# Altium schematic symbol library GPS_NEO-6M.SCHLIB: 13 symbols
Pins are listed as number, name and electrical type; pins without a type are passive.

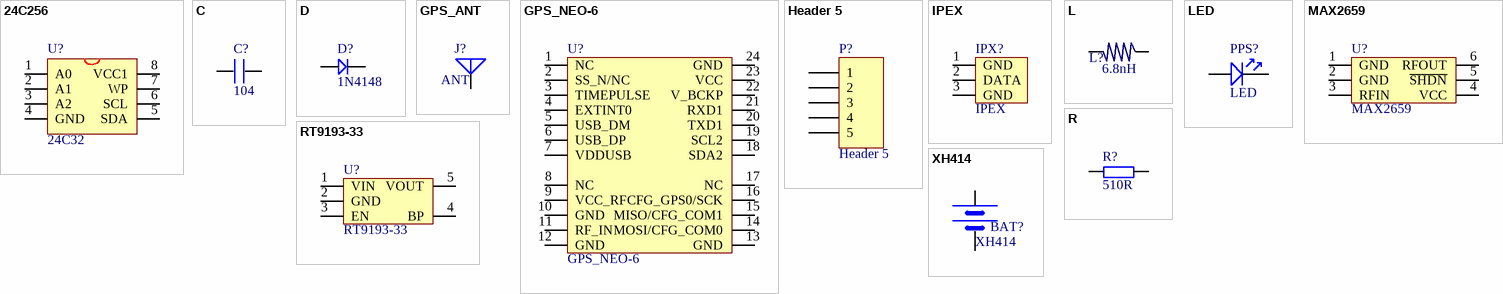
[diagram p0: symbols 24C256 to XH414]

## 24C256
designator U?, comment 24C32
EEPROM
footprint SOP-8 (SSOP8)
footprint TSSOP8 (Shrink Small Outline, MSOP; 8 Leads; Body Width 3 mm; Pitch 0.65 mm)
pins: 1 A0, 2 A1, 3 A2, 4 GND, 5 SDA, 6 SCL, 7 WP, 8 VCC1

## C
designator C?, comment 104
footprint 0603P
footprint 0805
footprint CC5.08 (CAP0.1)
footprint CC4.572 (222/332)
footprint 1206
footprint 1210
footprint CC6.096
footprint CC7.62
footprint CVAR (4MM*6.6MM)
pins: 1, 2

## D
designator D?, comment 1N4148
footprint SOD-123
footprint DIODE_SOP
footprint DIODE-L (6A10)
footprint DIODE-M (1N5822)
footprint DIODE_S (1N4007)
footprint DIODE_3*5.3 (ME:SS14/SS24;L:5.3mm;W:3mm;)
footprint DIODE_4*5.6 (ME:RS2J.L:5.6mm;W:4mm)
footprint DIODE_6.2*8.13 (ME:RS2J.L:8.13mm;W:6.2mm)
pins: 1, 2

## GPS_ANT
designator J?, comment ANT
GPS陶瓷天线25mm*25mm
footprint GPS_ANT (25mm*25m)
pins: 1 ANT

## GPS_NEO-6
designator U?
footprint GPS_NEO-6 (NEO-6G/NEO-6M/NEO-6Q)
pins: 1 NC, 2 SS_N/NC, 3 TIMEPULSE, 4 EXTINT0, 5 USB_DM, 6 USB_DP, 7 VDDUSB, 8 NC, 9 VCC_RF, 10 GND, 11 RF_IN, 12 GND, 13 GND, 14 MOSI/CFG_COM0, 15 MISO/CFG_COM1, 16 CFG_GPS0/SCK, 17 NC, 18 SDA2, 19 SCL2, 20 TXD1, 21 RXD1, 22 V_BCKP, 23 VCC, 24 GND

## Header 5
designator P?
Header, 5-Pin; LatestRevisionDate: 17-Jul-2002; LatestRevisionNote: Re-released for DXP Platform.; Publisher: Altium Limited
footprint HDR1X5 (Connector; Header; 5 Position)
signal-integrity model Connector
pins: 1, 2, 3, 4, 5

## IPEX
designator IPX?
IPEX座
footprint IPEX (IPEX座 2.6mm*2.6mm*1.25mm)
pins: 1 GND, 2 DATA, 3 GND

## L
designator L?, comment 6.8nH
footprint L3A (L)
footprint L4.7
footprint L_USER (SELF_DEF)
footprint L10 (10mH)
footprint SMD7850
footprint 0805
footprint 1206
footprint L_SOPL (L_LARGE)
footprint L_CD43 (4mm*4mm)
footprint 0603P
pins: 1, 2

## LED
designator PPS?
footprint SMDLED
footprint LED-DIP (PIN:2.54MM;H:5MM;)
pins: 1, 2

## MAX2659
designator U?
GPS LNA
footprint UDFN (QFN, 6-Leads, Body 1.5x1.0mm (max), Pitch 0.50mm, IPC Medium Density)
pins: 1 GND, 2 GND, 3 RFIN, 4 VCC, 5 ~{SHDN}, 6 RFOUT

## R
designator R?, comment 510R
footprint 0805
footprint 0603P
footprint RL (10o/0.7uH)
footprint R16.0 (RX/1W)
footprint 1206
footprint 1210
footprint R20.0 (RX/2W)
footprint R10.16 (STD)
footprint RLN9 (13.5mm*5.1mm)
pins: 1, 2

## RT9193-33
designator U?
3.3V超低压差LDO
footprint SOT-23-5
pins: 1 VIN, 2 GND, 3 EN, 4 BP, 5 VOUT

## XH414
designator BAT?
XH414 IV01E
footprint XH414 (BATTERY)
footprint BAT (BATTERY)
pins: 1 VCC, 2 GND